# Altium footprint library CLAP.PcbLib: 265 footprints (part 6 of 17)
Each footprint in its own frame and in the unit in brackets; x right, y up, seen from the top. Pads: shape width x height; smd on the part's side, far side on the other; paste and mask are expansions set on the pad; w line width, h text height; cw(c..) or ccw(c..) is an arc to the next point about the centre after c.
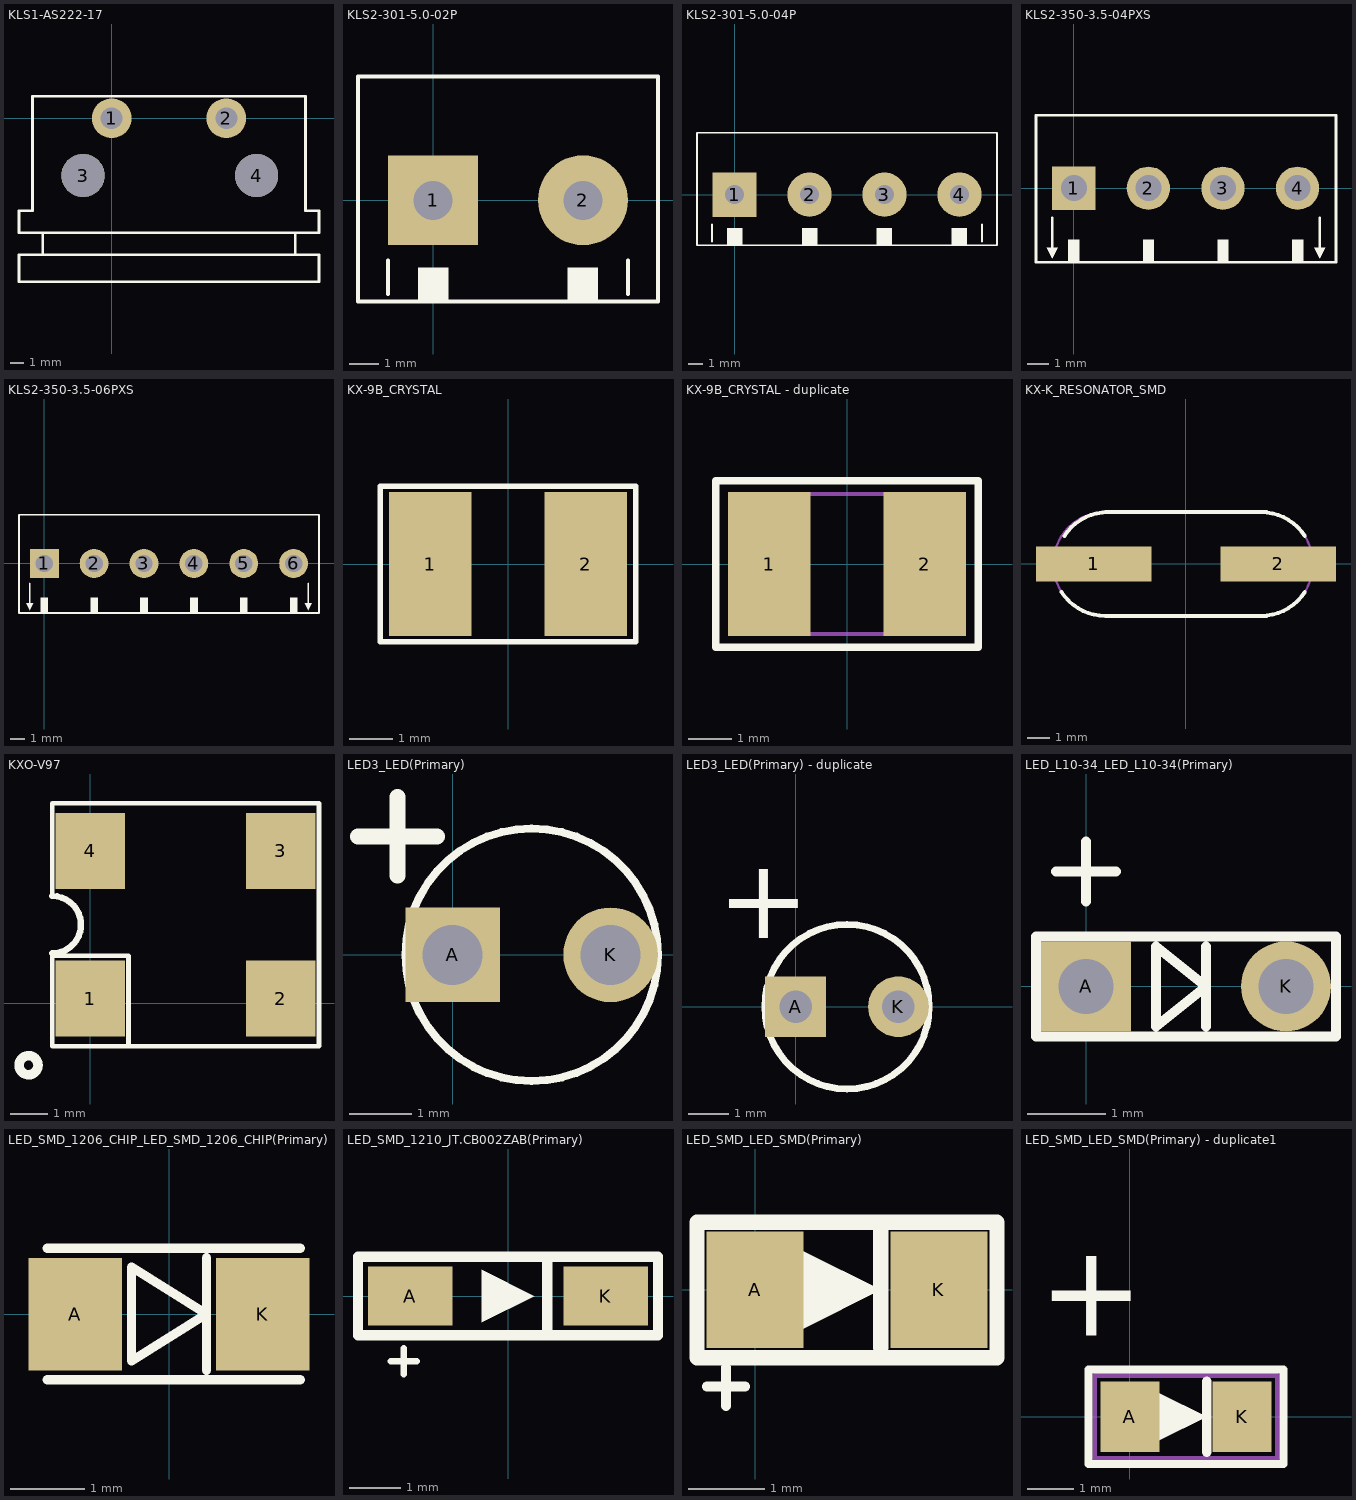
[diagram p5: the footprints below, top view; thin cyan lines are the x and y axes]

## KLS1-AS222-17 [mil]
pads (4):
  round 118.11 hole 64.96: 1(0,0) 2(340,0)
  round 128 hole 128 unplated: 3(-85,-170) 4(430,-170)
Top Overlay:
  lines w7.87: -205,-405 -205,-340 ; 545,-405 545,-340 ; -275,-485 615,-485 615,-405 -235,-405 -275,-405 -275,-485 ; -275,-340 -275,-275 -235,-275 -235,65 575,65 575,-275 615,-275 615,-340 -235,-340 -275,-340

## KLS2-301-5.0-02P [mil]
pads (2):
  rect 120x120 hole 52: 1(0,0)
  round 120 hole 52: 2(200,0)
Top Overlay:
  region: 180,-90 180,-135 220,-135 220,-90
  region: -20,-90 -20,-135 20,-135 20,-90
  lines w5: -60,-125 -60,-80 ; 260,-125 260,-80 ; -100,-135 300,-135 300,165 -100,165 -100,-135
3D body "Screw Terminal Block 5mm 2-way.step": height 393.7, standoff -78.74, extent -96.85,-157.48 302.75,157.48

## KLS2-301-5.0-04P [mm]
pads (4):
  rect 3x3 hole 1.3: 1(0,0)
  round 3 hole 1.3: 2(5.08,0) 3(10.16,0) 4(15.24,0)
Top Overlay:
  region: 5.588,-2.286 5.588,-3.429 4.572,-3.429 4.572,-2.286
  region: 10.668,-2.286 10.668,-3.429 9.652,-3.429 9.652,-2.286
  region: 0.508,-2.286 0.508,-3.429 -0.508,-3.429 -0.508,-2.286
  region: 15.748,-2.286 15.748,-3.429 14.732,-3.429 14.732,-2.286
  lines w0.127: -1.524,-3.175 -1.524,-2.032 ; 16.764,-3.175 16.764,-2.032 ; -2.54,-3.429 -2.54,4.191 17.78,4.191 17.78,-3.429 -2.54,-3.429
3D body "Screw Terminal Block 5mm Blue 4-way.step": height 10, standoff -2, extent -2.65,-4 17.5,4

## KLS2-350-3.5-04PXS [mil]
pads (4):
  rect 80x80 hole 48: 1(0,0)
  round 80 hole 48: 2(137.8,0) 3(275.8,0) 4(413.8,0)
Top Overlay:
  region: -30,-110 -50,-110 -40,-130
  region: 148,-138 148,-95 128,-95 128,-138
  region: 286,-138 286,-95 266,-95 266,-138
  region: 424,-138 424,-95 404,-95 404,-138
  region: 465,-110 445,-110 455,-130
  region: 10,-138 10,-95 -10,-95 -10,-138
  lines w5: -40,-110 -40,-55 ; 455,-110 455,-55 ; -70,-137 -70,135 485,135 485,-137 -70,-137
3D body "Screw Terminal Block 3.5mm Blue 2-way.step": height 330.71, standoff -78.74, extent 200.79,-133.86 488.19,133.86
3D body "Screw Terminal Block 3.5mm Blue 2-way.step": height 330.71, standoff -78.74, extent -74.8,-133.86 212.6,133.86

## KLS2-350-3.5-06PXS [mil]
pads (6):
  rect 80x80 hole 48: 1(0,0)
  round 80 hole 48: 2(137.8,0) 3(275.8,0) 4(413.8,0) 5(551.8,0) 6(689.8,0)
Top Overlay:
  region: -30,-110 -50,-110 -40,-130
  region: 148,-138 148,-95 128,-95 128,-138
  region: 286,-138 286,-95 266,-95 266,-138
  region: 424,-138 424,-95 404,-95 404,-138
  region: 562,-138 562,-95 542,-95 542,-138
  region: 700,-138 700,-95 680,-95 680,-138
  region: 740,-110 720,-110 730,-130
  region: 10,-138 10,-95 -10,-95 -10,-138
  lines w5: -40,-110 -40,-55 ; 730,-110 730,-55 ; -70,-137 -70,135 760,135 760,-137 -70,-137
3D body "Screw Terminal Block 3.5mm Blue 2-way.step": height 330.71, standoff -78.74, extent 476.38,-133.86 763.78,133.86
3D body "Screw Terminal Block 3.5mm Blue 2-way.step": height 330.71, standoff -78.74, extent 200.79,-133.86 488.19,133.86
3D body "Screw Terminal Block 3.5mm Blue 2-way.step": height 330.71, standoff -78.74, extent -74.8,-133.86 212.6,133.86

## KX-9B_CRYSTAL [mil]
pads (2):
  rect 74x130 smd: 1(-70,0) 2(70,0)
Top Overlay:
  lines w5: -115,-70 115,-70 115,70 -115,70 -115,-70
3D body "CERAMIC SMD CRYSTAL_AMB3B.stp": height 43.31, standoff -1.97, extent -98.42,-62.99 98.43,63

## KX-9B_CRYSTAL - duplicate [mil]
height 1.1
pads (2):
  rect 74x130 smd: 1(-70,0) 2(70,0)
Top Overlay:
  lines w6.69: -118.11,-74.8 -118.11,74.8 118.11,74.8 118.11,-74.8 -118.11,-74.8
Mechanical 1:
  lines w3.94: -98.43,-62.99 -98.43,62.99 98.43,62.99 98.43,-62.99 -98.43,-62.99
3D body "User Library-GeyerElectronics_KX9B.STEP": height 44.09, standoff 0, extent -98.62,-63.19 98.62,63.19

## KX-K_RESONATOR_SMD [mil]
height 39.37
pads (2):
  rect 200x60 smd: 1(-160,0) 2(160,0)
Top Overlay:
  lines w6.69: -215.74,-48.62 ccw(c-140,0) -140,-90 140,-90 ; -210.74,48.62 cw(c-135,0) -135,90 ; -140,90 140,90 ; 130,-90 ccw(c130,0) 205.74,-48.62 ; 130,90 cw(c130,0) 205.74,48.62
Mechanical 1:
  lines w3.94: -145,-90 135,-90 ; -145,90 135,90 ; -140,-90 cw(c-140,0) -140,90 ; 130,-90 ccw(c130,0) 130,90
3D body "User Library-HC49US.STEP": height 165.35, standoff 0, extent -250,-92.52 250,92.52

## KXO-V97 [mm]
pads (4):
  rect 1.85x2.02 smd: 1(0,0.127) 2(5.08,0.127) 3(5.08,4.064) 4(0,4.064)
Top Overlay:
  circle w0.254: c-1.651,-1.651 r0.254
  lines w0.127: -1.016,2.921 -1.016,5.334 ; -1.016,4.953 -1.016,5.334 ; 1.016,-1.143 1.016,1.27 -1.016,1.27 -1.016,-1.143 6.096,-1.143 6.096,-0.762 6.096,4.953 6.096,5.334 -1.016,5.334
  lines w0.17: -1.016,1.331 ccw(c-1.016,2.095) -1.016,2.86
3D body "KXO-97V.step": height 1.3, standoff 0, extent -1.15,-0.44 5.85,4.64

## LED3_LED(Primary) [mil]
pads (2):
  rect 60x60 hole 38: A(0,0)
  round 60 hole 38: K(100,0)
Top Overlay:
  circle w5: c50,0 r80
  lines w10: -60,75 -10,75 ; -35,50 -35,75 -35,100
3D body "LED_D3.0mm.step": height 326.77, standoff -98.43, extent -9.05,-74.75 124.81,74.77

## LED3_LED(Primary) - duplicate [mm]
pads (2):
  rect 1.5x1.5 hole 0.8: A(0,0)
  round 1.5 hole 0.8: K(2.54,0)
Top Overlay:
  circle w0.17: c1.27,0 r2.032
  text "+" at 0.347,3.391 h1.98
Mechanical 1:
  circle w0.1: c1.27,0 r2.032
  text "+" at 0.347,3.391 h1.98
3D body "LED_D3.0mm.step": height 8.3, standoff -2.5, extent -0.23,-1.899 3.17,1.899

## LED_L10-34_LED_L10-34(Primary) [mil]
pads (2):
  rect 45x45 hole 27.56: A(0,0)
  round 45 hole 27.56: K(100,0)
Top Overlay:
  lines w5: -15,57.36 15,57.36 ; 0,42.36 0,72.36 ; 60,-20 60,20 ; -25,-25 125,-25 125,25 -25,25 -25,-25 ; 35,-20 60,0 35,20 35,-20
3D body "LED_D1.8mm_W3.3mm_H2.4mm.step": height 137.8, standoff -200.79, extent -14.96,-47.24 114.96,47.25

## LED_SMD_1206_CHIP_LED_SMD_1206_CHIP(Primary) [mil]
pads (2):
  rect 50x60 smd: A(-50,0) K(50,0)
Top Overlay:
  lines w5: -65,-35 70,-35 ; -65,35 70,35 ; 20,-30 20,30 ; -20,-25 -20,25 20,0 -20,-25
3D body "LED_KINGBRIGHT_KPTD-3216QBC-D_Part 2.stp": height 70.87, standoff 7.87, extent -31.49,-31.49 31.5,31.5
3D body "LED_KINGBRIGHT_KPTD-3216QBC-D_Part 1.stp": height 13.78, standoff 0, extent -62.99,-31.49 63,31.5

## LED_SMD_1210_JT.CB002ZAB(Primary) [mil]
pads (2):
  rect 65x45 smd: A(-75,0) K(75,0)
Top Overlay:
  region: -20,20 -20,-20 20,0
  lines w5: -90,-50 -70,-50 ; -80,-60 -80,-40
  lines w8: 30,-30 30,30 ; -115,-30 -115,30 115,30 115,-30 -115,-30
3D body: height 31.5, standoff 3.94, extent -74.8,-23.62 74.8,23.62

## LED_SMD_LED_SMD(Primary) [mil]
pads (2):
  rect 50x60 smd: A(0,0) K(95,0)
Top Overlay:
  region: 25,20 25,-20 65,0
  lines w5: -25,-50 -5,-50 ; -15,-60 -15,-40
  lines w8: 65,-30 65,30 ; -30,-35 125,-35 125,35 -30,35 -30,-35
3D body "LED_1206_3216Metric.step": height 43.31, standoff 0, extent -15.75,-31.5 110.23,31.49

## LED_SMD_LED_SMD(Primary) - duplicate1 [mil]
pads (2):
  rect 50x60 smd: A(0,0) K(95,0)
Top Overlay:
  region: 65,0 25,-20 25,20
  lines w6.69: -35,-40 -35,40 130,40 130,-40 -35,-40
  lines w8: 65,-30 65,30
  text "+" at 12.17,136.19 h78.12
Mechanical 1:
  lines w3.94: -30,-35 -30,35 125,35 125,-35 -30,-35
  text "+" at 12.17,136.19 h78.12
3D body "LED_1206_3216Metric.step": height 43.31, standoff 0, extent -15.75,-31.5 110.23,31.49